# EAGLE library part TCS3414 (library naiLED_eagle)
Color Light-to-Digital Converter With SYNC Input for Color Sensing Synchronization and In-Package IR Blocking Filter (CS Package Only) Vdd I2C http://www.ams.com/eng/content/download/250258/975997/TCS3404_TCS3414-A.pdf
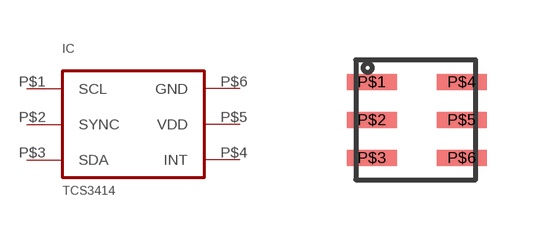
[diagram p1: symbol with the pads of DFN-6PIN; footprint DFN-6PIN]

Designator prefix IC

## TCS3414  [DFN-6PIN]
P$1  SCL
P$2  SYNC
P$3  SDA
P$4  INT
P$5  VDD
P$6  GND

## Footprint DFN-6PIN (pad centres in mm)
smd 1.25 x 0.4: P$1 -1.1,0.95; P$2 -1.1,0; P$3 -1.1,-0.95; P$4 1.15,0.95; P$5 1.15,0; P$6 1.15,-0.95